# Altium footprint library Samtec SWD+VCOM Header - J-Link.PcbLib: 1 footprints
Each footprint in its own frame and in the unit in brackets; x right, y up, seen from the top. Pads: shape width x height; smd on the part's side, far side on the other; paste and mask are expansions set on the pad; w line width, h text height; cw(c..) or ccw(c..) is an arc to the next point about the centre after c.
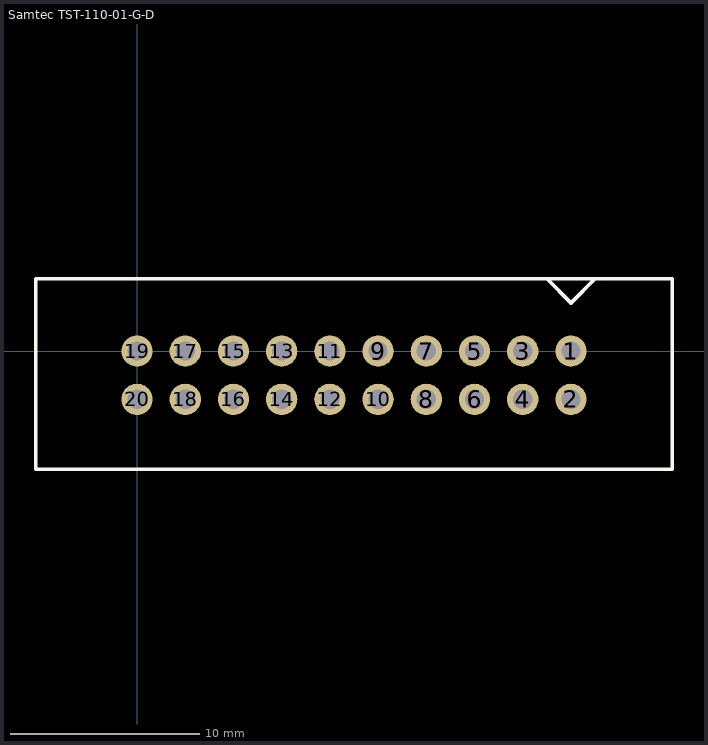
[diagram p0: the footprint, top view; thin cyan lines are the x and y axes]

## Samtec TST-110-01-G-D [mil] "TST-110-01-G-D"
pads (20):
  round 65 hole 40: 1(900,0) 2(900,-100) 3(800,0) 4(800,-100) 5(700,0) 6(700,-100) 7(600,0) 8(600,-100) 9(500,0) 10(500,-100) 11(400,0) 12(400,-100) 13(300,0) 14(300,-100) 15(200,0) 16(200,-100) 17(100,0) 18(100,-100) 19(0,0) 20(0,-100)
Top Overlay:
  lines w7.87: 850,150 900,100 950,150 ; -210,-245 1110,-245 1110,150 -210,150 -210,-245
3D body "TST-110-01-G-D.stp": height 350, standoff -130, extent -200.01,-232.51 1099.99,132.49